# Altium footprint library SW_TS-1187A-B-A-B.PcbLib: 1 footprints
Each footprint in its own frame and in the unit in brackets; x right, y up, seen from the top. Pads: shape width x height; smd on the part's side, far side on the other; paste and mask are expansions set on the pad; w line width, h text height; cw(c..) or ccw(c..) is an arc to the next point about the centre after c.
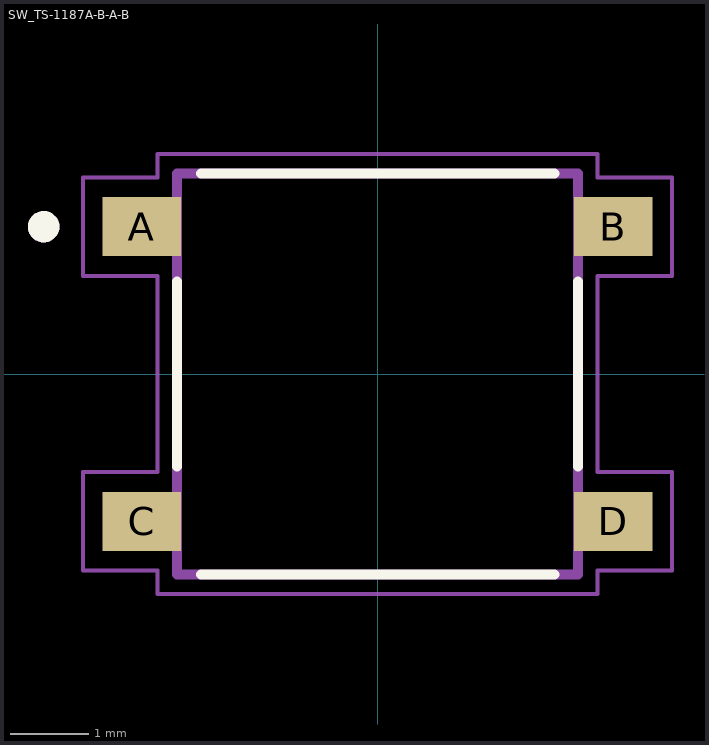
[diagram p0: the footprint, top view; thin cyan lines are the x and y axes]

## SW_TS-1187A-B-A-B [mm]
pads (4):
  rect 1x0.75 smd: A(-3,1.875) B(3,1.875) C(-3,-1.875) D(3,-1.875)
Top Overlay:
  circle w0.2: c-4.25,1.875 r0.1
  lines w0.127: -2.55,-1.18 -2.55,1.18 ; -2.25,-2.55 2.25,-2.55 ; -2.25,2.55 2.25,2.55 ; 2.55,-1.18 2.55,1.18
Mechanical 13:
  circle w0.2: c-4.25,1.875 r0.1
  lines w0.127: -2.55,-2.55 -2.55,2.55 2.55,2.55 2.55,-2.55 -2.55,-2.55
Mechanical 15:
  lines w0.05: -3.75,-2.5 -3.75,-1.25 -2.8,-1.25 -2.8,1.25 -3.75,1.25 -3.75,2.5 -2.8,2.5 -2.8,2.8 2.8,2.8 2.8,2.5 3.75,2.5 3.75,1.25 2.8,1.25 2.8,-1.25 3.75,-1.25 3.75,-2.5 2.8,-2.5 2.8,-2.8 -2.8,-2.8 -2.8,-2.5 -3.75,-2.5